# Altium schematic symbol library MWPR1516Schlib1.SchLib: 1 symbol
Pins are listed as number, name and electrical type; pins without a type are passive.

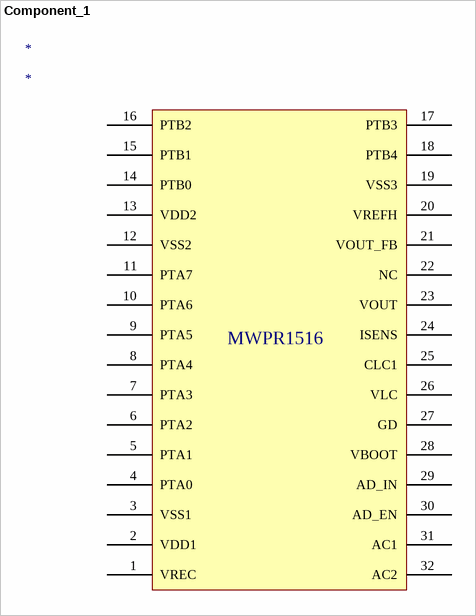
[diagram p0: symbol Component_1]

## Component_1
designator *
pins: 1 VREC, 2 VDD1, 3 VSS1, 4 PTA0, 5 PTA1, 6 PTA2, 7 PTA3, 8 PTA4, 9 PTA5, 10 PTA6, 11 PTA7, 12 VSS2, 13 VDD2, 14 PTB0, 15 PTB1, 16 PTB2, 17 PTB3, 18 PTB4, 19 VSS3, 20 VREFH, 21 VOUT_FB, 22 NC, 23 VOUT, 24 ISENS, 25 CLC1, 26 VLC, 27 GD, 28 VBOOT, 29 AD_IN, 30 AD_EN, 31 AC1, 32 AC2
text: MWPR1516